# Altium schematic symbol library SN-Lable.SchLib: 1 symbol
Pins are listed as number, name and electrical type; pins without a type are passive.

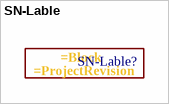
[diagram p0: symbol SN-Lable]

## SN-Lable
designator SN-Lable?  (no BOM)